# EAGLE library part USBLC6-2SC6 (library EFM8Midi)
VERY LOW CAPACITANCE ESD PROTECTION 2 line 2 data-line protection Protects VBUS Very low capacitance: 3.5 pF max. Very low leakage current: 150 nA max Datasheet link <http://www.st.com/web/catalog/sense_power/FM114/CL1137/SC1489/PF93353>
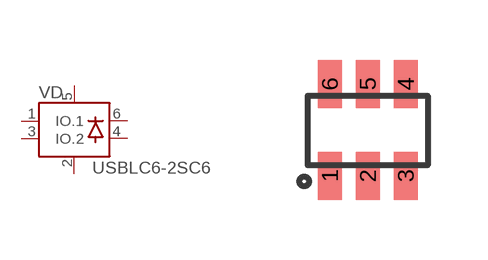
[diagram p3: symbol with the pads of SOT-23-6L; footprint SOT-23-6L]

Designator prefix VD

## USBLC6-2SC6SC6  [SOT-23-6L]
1  IO.1
2  GND
3  IO.2
4  IO_2
5  VBUS
6  IO_1

## Footprint SOT-23-6L (pad centres in mm)
smd 0.6 x 1.2: 1 -0.95,-2.3; 2 0,-2.3; 3 0.95,-2.3; 4 0.95,0; 5 0,0; 6 -0.95,0